# Altium footprint library PCB - CONNECTOR - SAMTEC IPL1-102-02-L-D-K-0.PcbLib: 1 footprints
Each footprint in its own frame and in the unit in brackets; x right, y up, seen from the top. Pads: shape width x height; smd on the part's side, far side on the other; paste and mask are expansions set on the pad; w line width, h text height; cw(c..) or ccw(c..) is an arc to the next point about the centre after c.
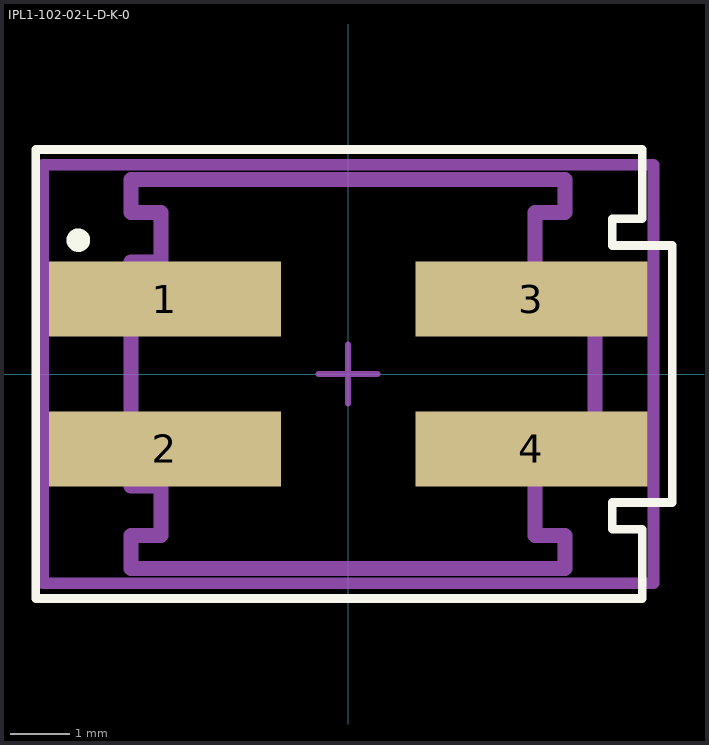
[diagram p0: the footprint, top view; thin cyan lines are the x and y axes]

## IPL1-102-02-L-D-K-0 [mm]
pads (4):
  rect 3.94x1.27 smd paste+0 mask+0: 1(-3.11,1.27) 2(-3.11,-1.27) 3(3.11,1.27) 4(3.11,-1.27)
Top Overlay:
  circle w0.2: c-4.579,2.271 r0.1
  lines w0.1: -4.629,2.271 ccw(c-4.579,2.271) -4.529,2.271
  lines w0.15: -5.3,-3.81 4.991,-3.81 ; -5.3,-3.8 -5.3,3.8 ; -5.3,3.81 4.991,3.81 ; 4.991,-3.8 4.991,-2.635 4.483,-2.635 4.483,-2.178 5.499,-2.178 5.499,2.178 4.483,2.178 4.483,2.635 4.991,2.635 4.991,3.8
Top Assembly:
  lines w0.254: -3.683,-3.302 -3.683,-2.743 -3.175,-2.743 -3.175,-1.905 -3.683,-1.905 -3.683,1.905 -3.175,1.905 -3.175,2.743 -3.683,2.743 -3.683,3.302 3.683,3.302 3.683,2.743 3.175,2.743 3.175,1.27 4.191,1.27 4.191,-1.27 3.175,-1.27 3.175,-2.743 3.683,-2.743 3.683,-3.302 -3.683,-3.302
Top Courtyard:
  lines w0.2: -5.18,-3.55 5.18,-3.55 5.18,3.55 -5.18,3.55 -5.18,-3.55
Top Designator:
  text ".Designator" at -2.45,3.888 h1
Top Component Center:
  lines w0.1: -0.5,0 0.5,0 ; 0,-0.5 0,0.5
3D body "Conn_Samtec_IPL1-102-02-L-D-K_eec.STEP": height 8.76, standoff 0, extent -4.788,-3.3 4.788,3.304